# Altium schematic symbol library ScrewTerminal.SchLib: 7 symbols
Pins are listed as number, name and electrical type; pins without a type are passive.

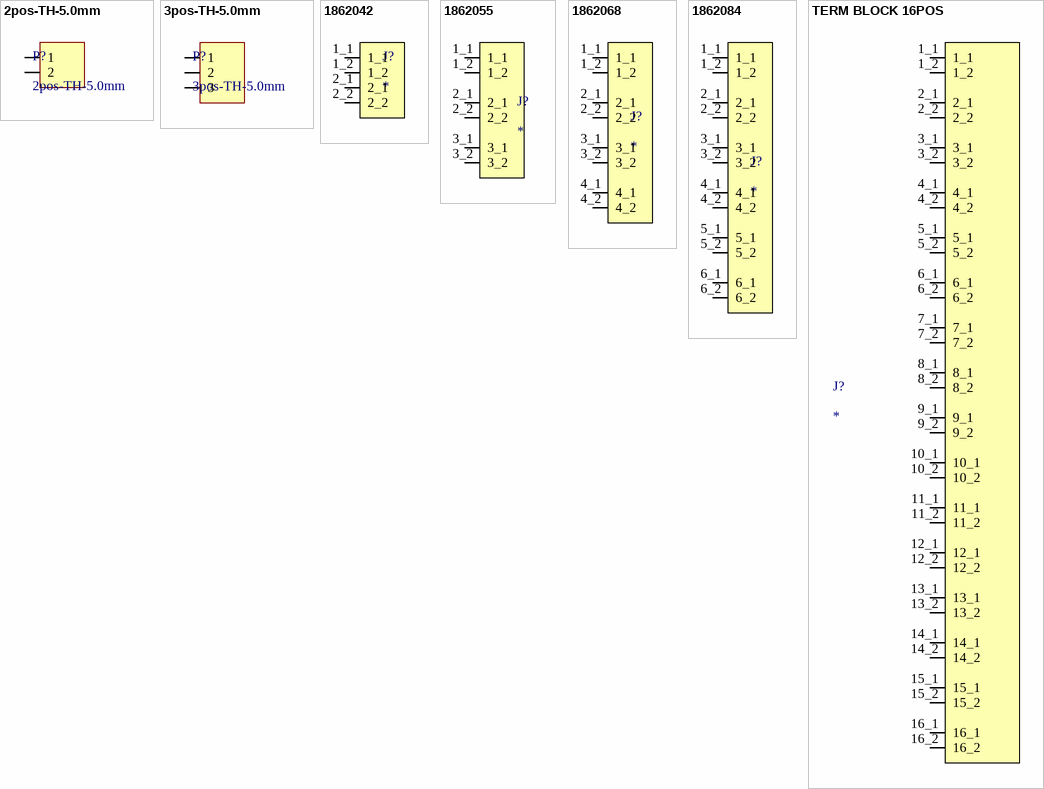
[diagram p0: symbols 2pos-TH-5.0mm to TERM BLOCK 16POS]

## 2pos-TH-5.0mm
designator P?
2pos-TH-5.0mm Screw Terminal; Supplier 1: Digi-Key; Supplier Part Number 1: N/A277-1667-ND; Mounted: Yes; Package / Case: TH; Volt: N/A
footprint Weco 2
pins: 1, 2

## 3pos-TH-5.0mm
designator P?
3pos-TH-5.0mm Screw Terminal; Supplier 1: Digi-Key; Supplier Part Number 1: 277-1667-ND; Mounted: Yes; Package / Case: TH; Volt: N/A
footprint Weco 3
pins: 1, 2, 3

## 1862042
designator J?
2pos-TH-3.5mm Wire-to-Board; MF: {'manufacturer': u'Phoenix Contact'}; MP: 1862042; Package: None; Price: None; Value: *; Availability: Unavailable; Supplier Part Number 1: 277-12154-ND
footprint PHOENIX_1862042
pins: 1_1, 1_2, 2_1, 2_2

## 1862055
designator J?
3pos-TH-3.5mm Wire-to-Board; MF: Phoenix Contact; MP: 1862055; SnapEDA_Link: https://www.snapeda.com/parts/1862055/Phoenix+Contact/view-part/?ref=snap; Package: None; Value: *; Check_prices: https://www.snapeda.com/parts/1862055/Phoenix+Contact/view-part/?ref=eda; Supplier Part Number 1: 277-12155-ND
footprint PHOENIX_1862055
pins: 1_1, 1_2, 2_1, 2_2, 3_1, 3_2

## 1862068
designator J?
4pos-TH-3.5mm Wire-to-Board; MF: {'manufacturer': u'Phoenix Contact'}; MP: 1862068; Package: None; Price: None; Value: *; Availability: Unavailable; Supplier Part Number 1: 277-12156-ND
footprint PHOENIX_1862068
pins: 1_1, 1_2, 2_1, 2_2, 3_1, 3_2, 4_1, 4_2

## 1862084
designator J?
6pos-TH-3.5mm Wire-to-Board; MF: {'manufacturer': u'Phoenix Contact'}; MP: 1862084; Package: None; Price: None; Value: *; Availability: Unavailable; Supplier Part Number 1: 277-12158-ND
footprint PHOENIX_1862084
pins: 1_1, 1_2, 2_1, 2_2, 3_1, 3_2, 4_1, 4_2, 5_1, 5_2, 6_1, 6_2

## TERM BLOCK 16POS
designator J?
16 Position Wire to Board Terminal Block 45° (135°) Angle with Board 0.138" (3.50mm) Through Hole; MF: {'manufacturer': u'Phoenix Contact'}; MP: 1862262; Package: None; Price: None; Value: *; Availability: Unavailable; Supplier Part Number 1: 277-12168-ND
footprint PHOENIX_1862262
pins: 1_1, 1_2, 2_1, 2_2, 3_1, 3_2, 4_1, 4_2, 5_1, 5_2, 6_1, 6_2, 7_1, 7_2, 8_1, 8_2, 9_1, 9_2, 10_1, 10_2, 11_1, 11_2, 12_1, 12_2, 13_1, 13_2, 14_1, 14_2, 15_1, 15_2, 16_1, 16_2